# Altium footprint library Leadless.pcbLib: 37 footprints (part 1 of 3)
Each footprint in its own frame and in the unit in brackets; x right, y up, seen from the top. Pads: shape width x height; smd on the part's side, far side on the other; paste and mask are expansions set on the pad; w line width, h text height; cw(c..) or ccw(c..) is an arc to the next point about the centre after c.
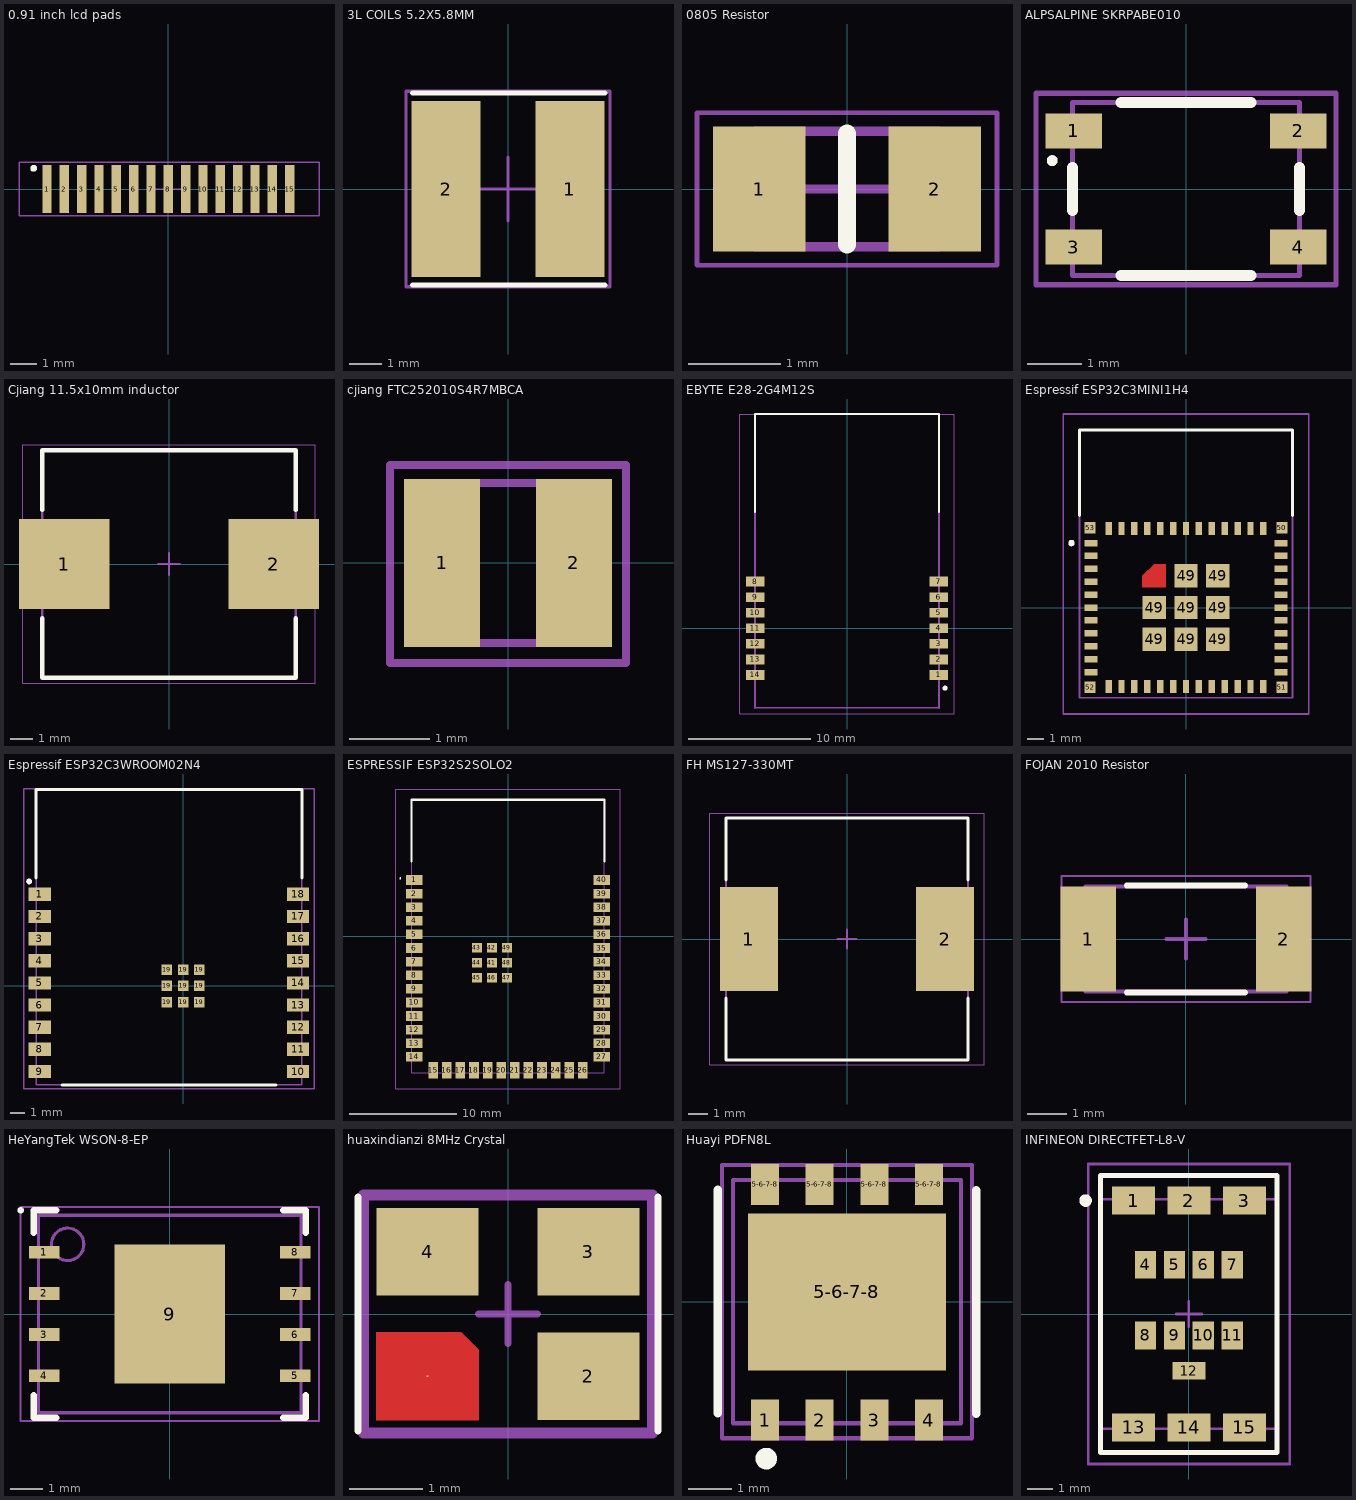
[diagram p0: the footprints below, top view; thin cyan lines are the x and y axes]

## 0.91 inch lcd pads [mm] "0.91 inch lcd pads"
pads (15):
  rect 0.35x1.8 smd paste+0 mask+0: 1(-4.55,0) 2(-3.9,0) 3(-3.25,0) 4(-2.6,0) 5(-1.95,0) 6(-1.3,0) 7(-0.65,0) 8(0,0) 9(0.65,0) 10(1.3,0) 11(1.95,0) 12(2.6,0) 13(3.25,0) 14(3.9,0) 15(4.55,0)
Top Overlay:
  circle w0.15: c-5.05,0.775 r0.05
Top Courtyard:
  lines w0.05: -5.6,-1 -5.6,1 5.65,1 5.65,-1 -5.6,-1
Top Component Center:
  lines w0.05: -0.5,0 0.5,0 ; 0,-0.5 0,0.5
Top Designator (Mech14):
  text ".Designator" at -2.499,-0.167 h0.5

## 3L COILS 5.2X5.8MM [mm]
height 4.85
pads (2):
  rect 2.15x5.5 smd paste-0.12 mask+0.1: 1(1.925,0) 2(-1.925,0)
Top Overlay:
  lines w0.152: -2.975,-2.996 3.025,-2.996 ; -2.975,2.996 3.025,2.996
Top Courtyard:
  lines w0.1: -3.175,-3.048 3.175,-3.048 3.175,3.048 -3.175,3.048 -3.175,-3.048
Top Component Center:
  lines w0.1: -1,0 1,0 ; 0,-1 0,1
Mechanical 15:
  lines w0.003: 3.405,0.127 3.405,0.127

## 0805 Resistor [mm]
pads (2):
  rect 1x1.35 smd paste-0.045 mask+0.1: 1(-0.95,0) 2(0.95,0)
Top Overlay:
  lines w0.2: 0,-0.6 0,0.6
Top Component Center:
  lines w0.1: -0.5,0 0.5,0 ; 0,-0.5 0,0.5
Mechanical 13:
  lines w0.1: -1,-0.625 1,-0.625 1,0.625 -1,0.625 -1,-0.625
Mechanical 15:
  lines w0.05: -1.625,-0.825 1.625,-0.825 1.625,0.825 -1.625,0.825 -1.625,-0.825
3D body "Resistor_0805_Text.step": height 0.52, standoff 0.01, extent -1,-0.625 1,0.625

## ALPSALPINE SKRPABE010 [mm]
pads (4):
  rect 1.05x0.65 smd: 1(-2.075,1.075) 2(2.075,1.075) 3(-2.075,-1.075) 4(2.075,-1.075)
Top Overlay:
  lines w0.1: -2.525,0.525 cw(c-2.475,0.525) -2.425,0.525 cw(c-2.475,0.525) -2.525,0.525
  lines w0.2: -2.1,-0.4 -2.1,0.4 ; -1.2,-1.6 1.2,-1.6 ; -1.2,1.6 1.2,1.6 ; 2.1,-0.4 2.1,0.4
Mechanical 13:
  lines w0.1: -2.1,-1.6 2.1,-1.6 2.1,1.6 -2.1,1.6 -2.1,-1.6
Mechanical 15:
  lines w0.1: -2.775,-1.775 2.775,-1.775 2.775,1.775 -2.775,1.775 -2.775,-1.775
3D body "SKRPABE010.stp": height 2.5, standoff 0, extent -2.3,-1.6 2.3,1.6

## Cjiang 11.5x10mm inductor [mm] "Precision Wire Wound Inductor, 2-Leads, Body 11,50x10,00mm, IPC Medium Density"
height 5
pads (2):
  rect 4.1x4.1 smd: 1(-4.75,0) 2(4.75,0)
Top Overlay:
  lines w0.2: -5.75,-2.45 -5.75,-5.15 5.75,-5.15 5.75,-2.45 ; -5.75,2.45 -5.75,5.15 5.75,5.15 5.75,2.45
Top Courtyard:
  lines w0.05: -6.625,-5.4 -6.625,5.4 6.625,5.4 6.625,-5.4 -6.625,-5.4
Top Component Center:
  lines w0.1: -0.5,0 0.5,0 ; 0,-0.5 0,0.5
Top Assembly:
  lines w0.1: -5.75,-5.15 -5.75,5.15 5.75,5.15 5.75,-5.15 -5.75,-5.15
Top Designator (Mech14):
  text ".Designator" at -2.2,-0.283 h0.5
3D body: height 5, standoff 0, extent -5.75,-5.15 5.75,5.15

## cjiang FTC252010S4R7MBCA [mm] "FTC252010S4R7MBCA"
pads (2):
  rect 0.95x2.1 smd: 1(-0.825,0) 2(0.825,0)
Mechanical 13:
  lines w0.1: -1.25,-1 1.25,-1 1.25,1 -1.25,1 -1.25,-1
Mechanical 15:
  lines w0.1: -1.475,-1.25 -1.475,1.225 1.475,1.225 1.475,-1.25 -1.475,-1.25

## EBYTE E28-2G4M12S [mm]
height 2.95
pads (14):
  rect 1.5x0.8 smd: 1(7.5,-3.81) 2(7.5,-2.54) 3(7.5,-1.27) 4(7.5,0) 5(7.5,1.27) 6(7.5,2.54) 7(7.5,3.81) 8(-7.5,3.81) 9(-7.5,2.54) 10(-7.5,1.27) 11(-7.5,0) 12(-7.5,-1.27) 13(-7.5,-2.54) 14(-7.5,-3.81)
Top Overlay:
  lines w0.15: -7.5,9.499 -7.5,17.5 7.5,17.5 7.5,9.499
  lines w0.2: 7.91,-4.89 ccw(c8.01,-4.89) 8.11,-4.89 ccw(c8.01,-4.89) 7.91,-4.89
Top 3D Body:
  lines w0.127: -7.5,-6.5 7.5,-6.5
  lines w0.15: 7.5,-6.5 7.5,9.499
Top Designator (Mech14):
  lines w0.15: -7.5,-6.5 -7.5,9.499
  text ".Designator" at -4.998,-0.333 h1
Mechanical 15:
  lines w0.1: -8.75,-7 -8.75,17.5 8.75,17.5 8.75,-7 -8.75,-7

## Espressif ESP32C3MINI1H4 [mm]
height 2.55
pads (61):
  rect 0.8x0.4 smd paste-0.021 mask+0.1: 1(-5.9,4) 2(-5.9,3.2) 3(-5.9,2.4) 4(-5.9,1.6) 5(-5.9,0.8) 6(-5.9,0) 7(-5.9,-0.8) 8(-5.9,-1.6) 9(-5.9,-2.4) 10(-5.9,-3.2) 11(-5.9,-4) 25(5.9,-4) 26(5.9,-3.2) 27(5.9,-2.4) 28(5.9,-1.6) 29(5.9,-0.8) 30(5.9,0) 31(5.9,0.8) 32(5.9,1.6) 33(5.9,2.4) 34(5.9,3.2) 35(5.9,4)
  rect 0.4x0.8 smd paste-0.021 mask+0.1: 12(-4.8,-4.9) 13(-4,-4.9) 14(-3.2,-4.9) 15(-2.4,-4.9) 16(-1.6,-4.9) 17(-0.8,-4.9) 18(0,-4.9) 19(0.8,-4.9) 20(1.6,-4.9) 21(2.4,-4.9) 22(3.2,-4.9) 23(4,-4.9) 24(4.8,-4.9) 36(4.8,4.9) 37(4,4.9) 38(3.2,4.9) 39(2.4,4.9) 40(1.6,4.9) 41(0.8,4.9) 42(0,4.9) 43(-0.8,4.9) 44(-1.6,4.9) 45(-2.4,4.9) 46(-3.2,4.9) 47(-4,4.9) 48(-4.8,4.9)
  rect 1.45x1.45 smd paste-0.057 mask+0.1: 49(-1.975,-1.975) 49(-1.975,0) 49(0,-1.975) 49(0,0) 49(0,1.975) 49(1.975,-1.975) 49(1.975,0) 49(1.975,1.975)
  round 0.025 smd paste-0.06 mask+0.1: 49(-1.975,1.975)
  rect 0.7x0.7 smd paste-0.027 mask+0.1: 50(5.95,4.95) 51(5.95,-4.95) 52(-5.95,-4.95) 53(-5.95,4.95)
Top Layer:
  region: -1.25,2.7 -1.25,1.25 -2.7,1.25 -2.7,1.975 -1.975,2.7
Top Overlay:
  lines w0.2: -6.6,5.7 -6.6,11 6.6,11 6.6,5.7 ; -7.2,4 cw(c-7.1,4) -7,4 cw(c-7.1,4) -7.2,4
Mechanical 13:
  lines w0.1: -6.6,-5.6 6.6,-5.6 6.6,11 -6.6,11 -6.6,-5.6
Mechanical 15:
  lines w0.1: -7.6,-6.6 7.6,-6.6 7.6,12 -7.6,12 -7.6,-6.6
3D body "ESP32-C3-MINI-1-H4.stp": height 2.4, standoff 0, extent -6.6,-5.6 6.6,11

## Espressif ESP32C3WROOM02N4 [mm]
height 3.35
pads (27):
  rect 1.5x0.9 smd paste-0.044 mask+0.1: 1(-9.71,6.2) 2(-9.71,4.7) 3(-9.71,3.2) 4(-9.71,1.7) 5(-9.71,0.2) 6(-9.71,-1.3) 7(-9.71,-2.8) 8(-9.71,-4.3) 9(-9.71,-5.8) 10(7.79,-5.8) 11(7.79,-4.3) 12(7.79,-2.8) 13(7.79,-1.3) 14(7.79,0.2) 15(7.79,1.7) 16(7.79,3.2) 17(7.79,4.7) 18(7.79,6.2)
  rect 0.7x0.7 smd paste-0.027 mask+0.1: 19(-1.1,-1.1) 19(-1.1,0) 19(-1.1,1.1) 19(0,-1.1) 19(0,0) 19(0,1.1) 19(1.1,-1.1) 19(1.1,0) 19(1.1,1.1)
Top Overlay:
  lines w0.2: -10.525,7.075 ccw(c-10.425,7.075) -10.325,7.075 ; -10.525,7.075 cw(c-10.425,7.075) -10.325,7.075 ; -10.525,7.075 ccw(c-10.425,7.075) -10.325,7.075 ; -9.96,13.3 8.04,13.3 ; -9.96,13.3 8.04,13.3 ; -9.96,13.3 -9.96,7.3 -9.96,13.3 ; 8.04,13.3 8.04,7.3 8.04,13.3 ; -8.21,-6.7 6.29,-6.7 -8.21,-6.7
Top Courtyard:
  lines w0.1: -10.8,-6.985 -10.8,13.335 8.89,13.335 8.89,-6.985 -10.8,-6.985
Mechanical 13:
  lines w0.1: -9.96,-6.7 8.04,-6.7 8.04,13.3 -9.96,13.3 -9.96,-6.7
3D body "ESP32-C3-WROOM-02-N4.stp": height 3.2, standoff 0, extent -9.975,-6.7 8.025,13.3

## ESPRESSIF ESP32S2SOLO2 [mm]
height 3.1
pads (49):
  rect 1.5x0.9 smd: 1(-8.75,5.26) 2(-8.75,3.99) 3(-8.75,2.72) 4(-8.75,1.45) 5(-8.75,0.18) 6(-8.75,-1.09) 7(-8.75,-2.36) 8(-8.75,-3.63) 9(-8.75,-4.9) 10(-8.75,-6.17) 11(-8.75,-7.44) 12(-8.75,-8.71) 13(-8.75,-9.98) 14(-8.75,-11.25) 27(8.75,-11.25) 28(8.75,-9.98) 29(8.75,-8.71) 30(8.75,-7.44) 31(8.75,-6.17) 32(8.75,-4.9) 33(8.75,-3.63) 34(8.75,-2.36) 35(8.75,-1.09) 36(8.75,0.18) 37(8.75,1.45) 38(8.75,2.72) 39(8.75,3.99) 40(8.75,5.26)
  rect 0.9x1.5 smd: 15(-6.985,-12.5) 16(-5.715,-12.5) 17(-4.445,-12.5) 18(-3.175,-12.5) 19(-1.905,-12.5) 20(-0.635,-12.5) 21(0.635,-12.5) 22(1.905,-12.5) 23(3.175,-12.5) 24(4.445,-12.5) 25(5.715,-12.5) 26(6.985,-12.5)
  rect 0.9x0.9 smd: 41(-1.5,-2.46) 42(-1.5,-1.06) 43(-2.9,-1.06) 44(-2.9,-2.46) 45(-2.9,-3.86) 46(-1.5,-3.86) 47(-0.1,-3.86) 48(-0.1,-2.46) 49(-0.1,-1.06)
Top Overlay:
  lines w0.1: -10.1,5.4 cw(c-10.05,5.4) -10,5.4 cw(c-10.05,5.4) -10.1,5.4
  lines w0.2: -9,7 -9,12.75 9,12.75 9,7
Mechanical 13:
  lines w0.1: -9,-12.75 9,-12.75 9,12.75 -9,12.75 -9,-12.75
Mechanical 15:
  lines w0.1: -10.5,-14.25 10.5,-14.25 10.5,13.75 -10.5,13.75 -10.5,-14.25
3D body "ESP32-S2-SOLO-2.STEP": height 3.1, standoff -0.04, extent -9,-12.75 9,12.75

## FH MS127-330MT [mm] "Precision Wire Wound Inductor, 2-Leads, Body 12,20x12,20mm, IPC Medium Density"
height 7.5
pads (2):
  rect 3x5.4 smd: 1(-5.1,0) 2(5.1,0)
Top Overlay:
  lines w0.15: -6.3,-3.075 -6.3,-6.3 6.3,-6.3 6.3,-3.075 ; -6.3,3.075 -6.3,6.3 6.3,6.3 6.3,3.075
Top Courtyard:
  lines w0.05: -7.125,-6.55 -7.125,6.55 7.125,6.55 7.125,-6.55 -7.125,-6.55
  lines w0.1: -0.5,0 0.5,0 ; 0,-0.5 0,0.5
Top Assembly:
  lines w0.1: -6.3,-6.3 -6.3,6.3 6.3,6.3 6.3,-6.3 -6.3,-6.3
3D body: height 7.5, standoff 0, extent -6.3,-6.3 6.3,6.3

## FOJAN 2010 Resistor [mm] "FChip Resistor, 2-Leads, Body 5,00x2,50mm, IPC Medium Density"
height 0.65
pads (2):
  rect 1.4x2.65 smd paste-0.071 mask+0.1: 1(-2.475,0) 2(2.475,0)
Top Overlay:
  lines w0.15: -1.5,-1.352 1.5,-1.352 ; -1.5,1.352 1.5,1.352
Top Courtyard:
  lines w0.05: -3.15,-1.6 -3.15,1.6 3.15,1.6 3.15,-1.6 -3.15,-1.6
Top Component Center:
  lines w0.1: -0.5,0 0.5,0 ; 0,-0.5 0,0.5
Top Assembly:
  lines w0.1: -2.55,-1.325 -2.55,1.325 2.55,1.325 2.55,-1.325 -2.55,-1.325
3D body "RESC5025X06N.step": height 0.65, standoff 0, extent -2.55,-1.325 2.55,1.325

## HeYangTek WSON-8-EP [mm] "SON, 8-Leads, Body 6,00x8,00mm, Pitch 1,27mm, Thermal Pad 4,30x3,40mm, IPC Medium Density"
height 0.9
pads (9):
  rect 0.95x0.4 smd: 1(-3.87,1.905) 2(-3.87,0.635) 3(-3.87,-0.635) 4(-3.87,-1.905) 5(3.87,-1.905) 6(3.87,-0.635) 7(3.87,0.635) 8(3.87,1.905)
  rect 3.4x4.3 smd paste-1.7: 9(0,0)
Top Overlay:
  circle w0.1: c-4.6,3.2 r0.05
  lines w0.2: -4.2,-2.505 -4.2,-3.2 -3.495,-3.2 ; -4.2,2.505 -4.2,3.2 -3.495,3.2 ; 3.495,-3.2 4.2,-3.2 4.2,-2.505 ; 3.495,3.2 4.2,3.2 4.2,2.505
Top Paste:
  rectangle: -1.595,0.815 -0.665,2.045
  rectangle: -1.595,-0.615 -0.665,0.615
  rectangle: -1.595,-2.045 -0.665,-0.815
  rectangle: -0.465,0.815 0.465,2.045
  rectangle: -0.465,-0.615 0.465,0.615
  rectangle: -0.465,-2.045 0.465,-0.815
  rectangle: 0.665,0.815 1.595,2.045
  rectangle: 0.665,-0.615 1.595,0.615
  rectangle: 0.665,-2.045 1.595,-0.815
Top Courtyard:
  lines w0.05: -4.605,-3.3 -4.605,3.3 4.605,3.3 4.605,-3.3 -4.605,-3.3
  lines w0.1: -0.5,0 0.5,0 ; 0,-0.5 0,0.5
Top Assembly:
  circle w0.1: c-3.15,2.15 r0.5
  lines w0.1: -4.05,-3.05 -4.05,3.05 4.05,3.05 4.05,-3.05 -4.05,-3.05
3D body: height 0.9, standoff 0.05, extent -4.05,-3.05 4.05,3.05

## huaxindianzi 8MHz Crystal [mm] "8MHz Crystal Oscillator 12pF ±10ppm ±30ppm SMD3225-4P Crystals ROHS"
pads (4):
  round 0.025 smd paste-0.057 mask+0.1: 1(-1.1,-0.85)
  rect 1.4x1.2 smd paste-0.05 mask+0.1: 2(1.1,-0.85) 3(1.1,0.85) 4(-1.1,0.85)
Top Layer:
  region: -0.4,-1.45 -1.8,-1.45 -1.8,-0.25 -0.64,-0.25 -0.4,-0.49
Top Overlay:
  lines w0.1: -2.05,-1.6 -2.05,1.6 ; 2.05,-1.6 2.05,1.6
Top Designator:
  text ".Designator" at 0.15,0.197 h1
Top 3D Body:
  lines w0.15: -1.975,-1.625 1.975,-1.625 1.975,1.625 -1.975,1.625 -1.975,-1.625
Top Courtyard:
  lines w0.15: -1.975,-1.625 1.975,-1.625 1.975,1.625 -1.975,1.625 -1.975,-1.625
Top Component Center:
  lines w0.1: -0.4,0 0.4,0 ; 0,-0.4 0,0.4

## Huayi PDFN8L [mm]
pads (9):
  rect 0.65x0.95 smd paste+0 mask+0: 1(-1.905,-2.755) 2(-0.635,-2.755) 3(0.635,-2.755) 4(1.905,-2.755) 5-6-7-8(-1.905,2.72) 5-6-7-8(-0.635,2.72) 5-6-7-8(0.635,2.72) 5-6-7-8(1.905,2.72)
  rect 4.6x3.65 smd paste+0 mask+0: 5-6-7-8(0,0.225)
Top Overlay:
  circle w0.25: c-1.875,-3.65 r0.125
  lines w0.2: -3,-2.6 -3,2.6 ; 3,-2.61 3,2.59
Top 3D Body:
  lines w0.1: -2.65,-2.825 2.65,-2.825 2.65,2.825 -2.65,2.825 -2.65,-2.825
Top Courtyard:
  lines w0.1: -2.902,-3.18 2.902,-3.18 2.902,3.17 -2.902,3.17 -2.902,-3.18
Top Component Center:
  lines w0.1: -0.5,0 0.5,0 ; 0,-0.5 0,0.5
Top Designator (Mech14):
  text ".Designator" at 0,0.183 h1
3D body "Trans_Alpha_&_Omega_Semiconductor_AONS66917_eec.STEP": height 0.25, standoff 0, extent -2.902,-3.18 2.902,3.17

## INFINEON DIRECTFET-L8-V [mm] "DIRECTFET, 15 Pin, 9.1mm L X 6.975mm W X 0.74mm H body"
height 0.74
pads (15):
  rect 1.7x1.1 smd paste-0.1 mask+0: 1(-2.2,4.5) 2(0,4.5) 3(2.2,4.5) 13(-2.2,-4.5) 14(0,-4.5) 15(2.2,-4.5)
  rect 0.85x1.1 smd paste-0.6 mask+0: 4(-1.725,1.95) 5(-0.575,1.95) 6(0.575,1.95) 7(1.725,1.95) 8(-1.725,-0.85) 9(-0.575,-0.85) 10(0.575,-0.85) 11(1.725,-0.85)
  rect 1.3x0.7 smd paste-0.4 mask+0: 12(0,-2.25)
Top Overlay:
  circle w0.25: c-4.1,4.5 r0.125
  lines w0.2: -3.5,-5.5 -3.5,5.5 3.5,5.5 3.5,-5.5 -3.5,-5.5
Top Paste:
  region: 0.55,-2.562 0.55,-1.937 -0.55,-1.937 -0.55,-2.562
  region: -2.075,-1.35 -1.375,-1.35 -1.375,-0.35 -2.075,-0.35
  region: -0.925,-1.35 -0.225,-1.35 -0.225,-0.35 -0.925,-0.35
  region: 0.225,-1.35 0.925,-1.35 0.925,-0.35 0.225,-0.35
  region: 1.375,-1.35 2.075,-1.35 2.075,-0.35 1.375,-0.35
  region: -2.075,1.45 -1.375,1.45 -1.375,2.45 -2.075,2.45
  region: -0.925,1.45 -0.225,1.45 -0.225,2.45 -0.925,2.45
  region: 0.225,1.45 0.925,1.45 0.925,2.45 0.225,2.45
  region: 1.375,1.45 2.075,1.45 2.075,2.45 1.375,2.45
Bottom Designator:
  text ".DESIGNATOR" at 0,0 h1.2
Mechanical 13:
  lines w0.1: -3.487,-4.55 3.487,-4.55 3.487,4.55 -3.487,4.55 -3.487,-4.55
Mechanical 15:
  lines w0.1: -0.5,0 0.5,0 ; 0,-0.5 0,0.5 ; -3.99,-5.95 -3.99,5.95 3.99,5.95 3.99,-5.95 -3.99,-5.95
3D body "WDSON-2-X4.stp": height 0.75, standoff 0, extent -3.488,-4.55 3.487,4.55